# EAGLE library part JST-PH-8-2.0MM (library SamacSys_Parts)
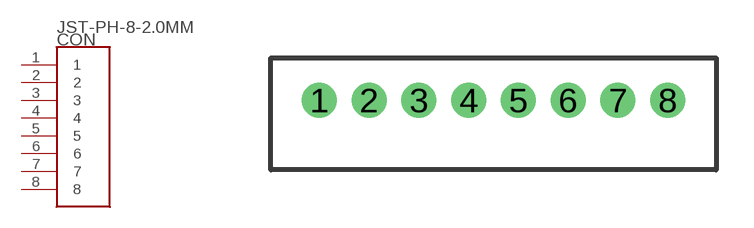
[diagram p25: symbol with the pads of JST-PH-8-2.0MM; footprint JST-PH-8-2.0MM]

Designator prefix CON

## JST-PH-8-2.0MM  [JST-PH-8-2.0MM]
1  1
2  2
3  3
4  4
5  5
6  6
7  7
8  8

## Footprint JST-PH-8-2.0MM (pad centres in mm)
drill 0.9: 1 -7,0; 2 -5,0; 3 -3,0; 4 -1,0; 5 1,0; 6 3,0; 7 5,0; 8 7,0